# EAGLE library part WIRL-BTLE_2612011024000 (library WIRL)
Proteus-e-Bluetooth 5.1 module WIRL-BTLE Proteus-e Bluetooth 5.1 module Details see: https://we-online.de/katalog/en/article/2612011024000/
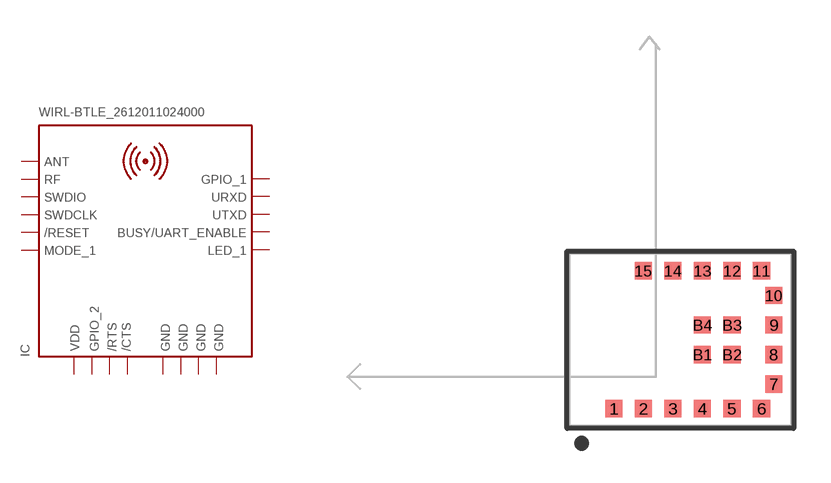
[diagram p31: symbol with the pads of WE-FP-6; footprint WE-FP-6]

Designator prefix IC

## WIRL-BTLE_2612011024000 (DATASHEET: https://www.we-online.com/redexpert/spec/2612011024000?ae; HEIGHT: 2mm; MANUFACTURER: Würth Elektronik; MOUNT: SMT; PART-NUMBER: 2612011024000; PREFIX: IC; VALUE: 2612011024000)  [WE-FP-6]
1  1
2  2
3  3
4  4
5  5
6  6
7  7
8  8
9  9
10  10
11  11
12  12
13  13
14  14
15  15
B1  B1
B2  B2
B3  B3
B4  B4

## Footprint WE-FP-6 (pad centres in mm)
smd 0.7 x 0.7: 1 -2.7,-2.8; 2 -1.5,-2.8; 3 -0.3,-2.8; 4 0.9,-2.8; 5 2.1,-2.8; 6 3.3,-2.8; 7 3.8,-1.8; 8 3.8,-0.6; 9 3.8,0.6; 10 3.8,1.8; 11 3.3,2.8; 12 2.1,2.8; 13 0.9,2.8; 14 -0.3,2.8; 15 -1.5,2.8; B1 0.9,-0.6; B2 2.1,-0.6; B3 2.1,0.6; B4 0.9,0.6